# EAGLE library part AD8313ARM (library receiver_2v0)
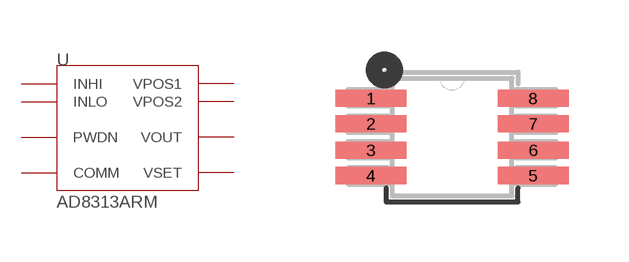
[diagram p4: symbol with the pads of RM-08; footprint RM-08]

Designator prefix U

## AD8313ARM  [RM-08]
1  VPOS1  pwr
2  INHI  pas
3  INLO  pas
4  VPOS2  pas
5  PWDN  pas
6  COMM  pas
7  VSET  pas
8  VOUT  pas

## Footprint RM-08 (pad centres in mm)
smd 1.778 x 0.432: 1 -2.032,0.965; 2 -2.032,0.33; 3 -2.032,-0.33; 4 -2.032,-0.965; 5 2.032,-0.965; 6 2.032,-0.33; 7 2.032,0.33; 8 2.032,0.965